# EAGLE library part MCV_05/10-G-2,5 (library con-phoenix-250)
Mini-Combicon 2.50mm 10polig MC(V) 0,5/10-G-2,5
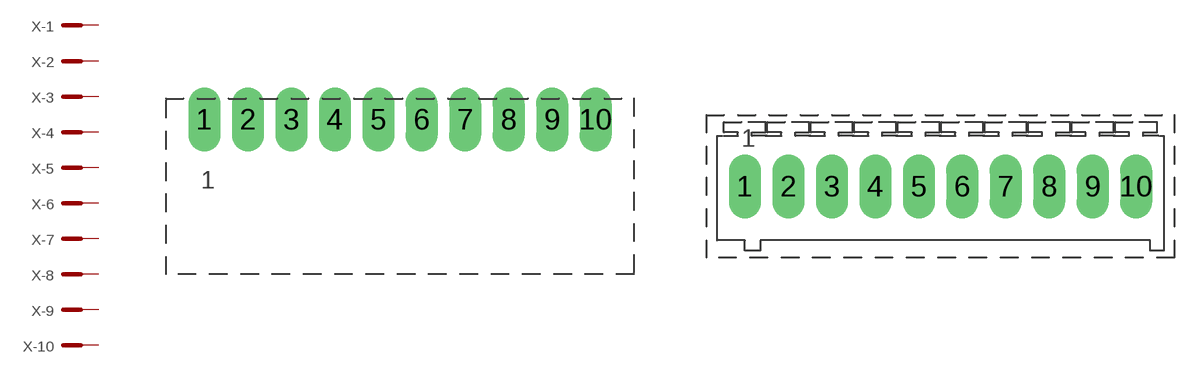
[diagram p6: symbol with the pads of MC10; footprints MC10, MCV10]

Designator prefix X; gates -1=MCST -2=MCST -3=MCST -4=MCST -5=MCST -6=MCST -7=MCST -8=MCST -9=MCST -10=MCST

## MCV_05/10-G-2,5  [MC10]
1  -1:SK  pas
2  -2:SK  pas
3  -3:SK  pas
4  -4:SK  pas
5  -5:SK  pas
6  -6:SK  pas
7  -7:SK  pas
8  -8:SK  pas
9  -9:SK  pas
10  -10:SK  pas

## MCV_05/10-G-2,5V  [MCV10]
Pads as for MC10

## Footprint MC10 (pad centres in mm)
Mini-Combicon 2.50mm 10-polig
drill 1.22 pad 1.676 long: 1 -10,0; 2 -7.5,0; 3 -5,0; 4 -2.5,0; 5 0,0; 6 2.5,0; 7 5,0; 8 7.5,0; 9 10,0; 10 12.5,0

## Footprint MCV10 (pad centres in mm)
Mini-Combicon 2.50mm vertikal 10-polig
drill 1.22 pad 1.676 long: 1 -10,0; 2 -7.5,0; 3 -5,0; 4 -2.5,0; 5 0,0; 6 2.5,0; 7 5,0; 8 7.5,0; 9 10,0; 10 12.5,0